# Altium footprint library F3311A7H121016E200.PcbLib: 1 footprints
Each footprint in its own frame and in the unit in brackets; x right, y up, seen from the top. Pads: shape width x height; smd on the part's side, far side on the other; paste and mask are expansions set on the pad; w line width, h text height; cw(c..) or ccw(c..) is an arc to the next point about the centre after c.
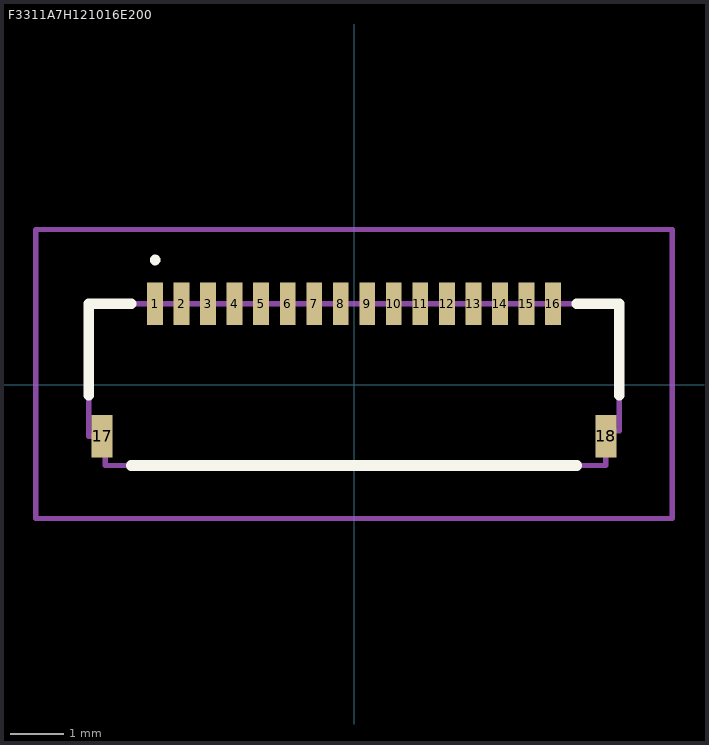
[diagram p0: the footprint, top view; thin cyan lines are the x and y axes]

## F3311A7H121016E200 [mm]
pads (18):
  rect 0.3x0.8 smd: 1(-3.75,1.525) 2(-3.25,1.525) 3(-2.75,1.525) 4(-2.25,1.525) 5(-1.75,1.525) 6(-1.25,1.525) 7(-0.75,1.525) 8(-0.25,1.525) 9(0.25,1.525) 10(0.75,1.525) 11(1.25,1.525) 12(1.75,1.525) 13(2.25,1.525) 14(2.75,1.525) 15(3.25,1.525) 16(3.75,1.525)
  rect 0.4x0.8 smd: 17(-4.75,-0.975) 18(4.75,-0.975)
Top Overlay:
  lines w0.1: -3.75,2.3 cw(c-3.75,2.35) -3.75,2.4 ; -3.75,2.3 -3.75,2.3 ; -3.75,2.3 ccw(c-3.75,2.35) -3.75,2.4 ; -3.75,2.4 -3.75,2.4
  lines w0.2: -5,-0.2 -5,1.525 -4.2,1.525 ; -4.2,-1.525 4.2,-1.525 ; 4.2,1.525 5,1.525 5,-0.2
Mechanical 15:
  lines w0.1: -5,-0.975 -4.69,-0.975 -4.69,-1.525 4.75,-1.525 4.75,-0.875 5,-0.875 5,1.525 0,1.525 -5,1.525 -5,-0.975
Mechanical 20:
  lines w0.1: -6,-2.525 6,-2.525 6,2.925 -6,2.925 -6,-2.525